# EAGLE library part ADR292/1 (library analog-devices)
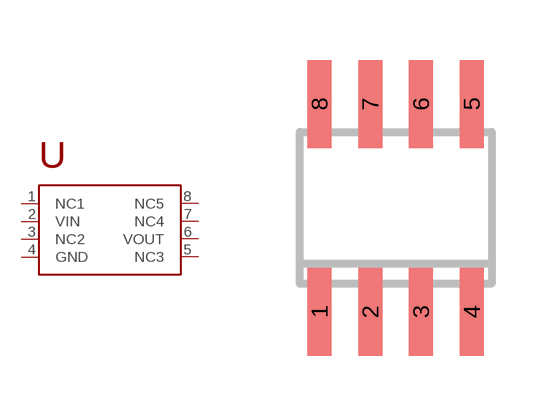
[diagram p30: symbol with the pads of SO8; footprint SO8]

Designator prefix -

## ADR292/1  [SO8]
1  NC1  nc
2  VIN  pwr
3  NC2  nc
4  GND  sup
5  NC3  nc
6  VOUT  out
7  NC4  nc
8  NC5  nc

## Footprint SO8 (pad centres in mm)
SMALL OUTLINE INTEGRATED CIRCUIT
smd 0.6 x 2.2: 1 -1.905,-2.6; 2 -0.635,-2.6; 3 0.635,-2.6; 4 1.905,-2.6; 5 1.905,2.6; 6 0.635,2.6; 7 -0.635,2.6; 8 -1.905,2.6